# Altium footprint library MFKS 4F-PCB.PcbLib: 1 footprints
Each footprint in its own frame and in the unit in brackets; x right, y up, seen from the top. Pads: shape width x height; smd on the part's side, far side on the other; paste and mask are expansions set on the pad; w line width, h text height; cw(c..) or ccw(c..) is an arc to the next point about the centre after c.
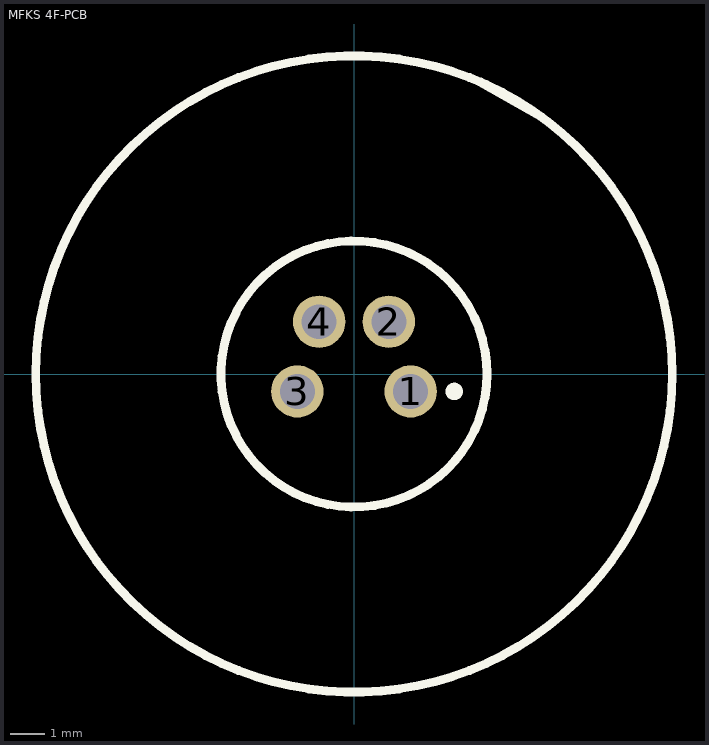
[diagram p0: the footprint, top view; thin cyan lines are the x and y axes]

## MFKS 4F-PCB [mil]
pads (4):
  round 60 hole 40: 1(65,-20) 2(40,60) 3(-65,-20) 4(-40,60)
Top Overlay:
  circle w10: c0,0 r365
  circle w10: c115,-20 r5
  circle w10: c0,0 r152.64
  lines w10: 145,335 215,295
3D body: height 661.81, standoff 150, extent -363.89,-334.64 363.9,334.65